# EAGLE library part TCA9555 (library button_lib)
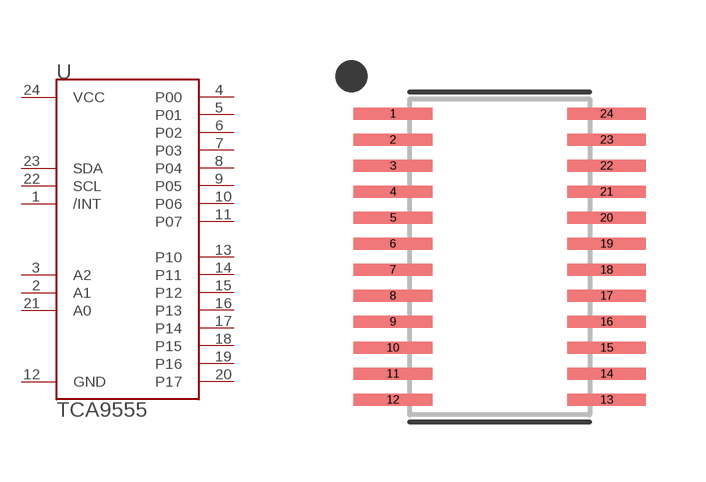
[diagram p0: symbol with the pads of SOP65P640X120-24; footprint SOP65P640X120-24]

Designator prefix U

## TCA9555TSSOP24  [SOP65P640X120-24]
1  /INT
2  A1
3  A2
4  P00
5  P01
6  P02
7  P03
8  P04
9  P05
10  P06
11  P07
12  GND
13  P10
14  P11
15  P12
16  P13
17  P14
18  P15
19  P16
20  P17
21  A0
22  SCL
23  SDA
24  VCC

## Footprint SOP65P640X120-24 (pad centres in mm)
24-SOP, 0.65 mm pitch, 6.4 mm span, 7.9 X 4.4 X 1.2 mm body 24-pin SOP package with 0.65 mm pitch, 6.4 mm span with body size 7.9 X 4.4 X 1.2 mm
smd 1.968 x 0.3: 1 -2.673,3.575; 2 -2.673,2.925; 3 -2.673,2.275; 4 -2.673,1.625; 5 -2.673,0.975; 6 -2.673,0.325; 7 -2.673,-0.325; 8 -2.673,-0.975; 9 -2.673,-1.625; 10 -2.673,-2.275; 11 -2.673,-2.925; 12 -2.673,-3.575; 13 2.673,-3.575; 14 2.673,-2.925; 15 2.673,-2.275; 16 2.673,-1.625; 17 2.673,-0.975; 18 2.673,-0.325; 19 2.673,0.325; 20 2.673,0.975; 21 2.673,1.625; 22 2.673,2.275; 23 2.673,2.925; 24 2.673,3.575